# EAGLE library part ATXMEGA_A3U (library 000_CustomPartsMaster)
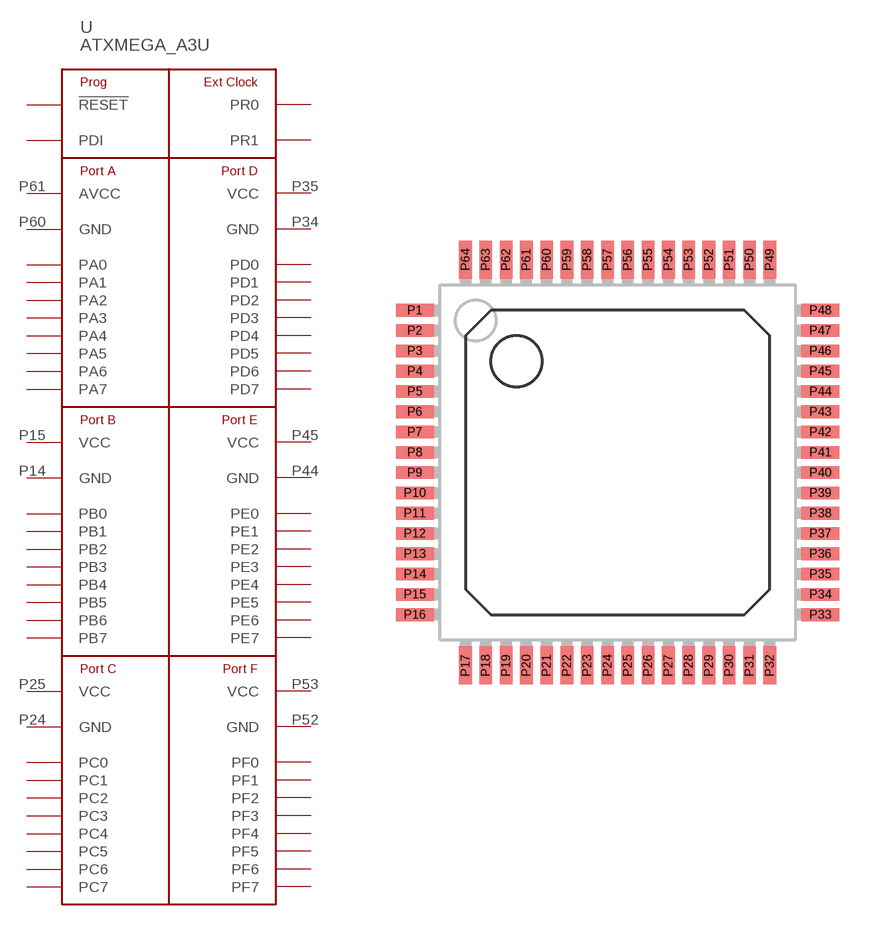
[diagram p27: symbol with the pads of 64-TQFP-0.8GRID; footprint 64-TQFP-0.8GRID]

Designator prefix -

## ATXMEGA_A3U  [64-TQFP-0.8GRID]
P1  PA3
P2  PA4
P3  PA5
P4  PA6
P5  PA7
P6  PB0
P7  PB1
P8  PB2
P9  PB3
P10  PB4
P11  PB5
P12  PB6
P13  PB7
P14  GND
P15  VCC
P16  PC0
P17  PC1
P18  PC2
P19  PC3
P20  PC4
P21  PC5
P22  PC6
P23  PC7
P24  GND
P25  VCC
P26  PD0
P27  PD1
P28  PD2
P29  PD3
P30  PD4
P31  PD5
P32  PD6
P33  PD7
P34  GND
P35  VCC
P36  PE0
P37  PE1
P38  PE2
P39  PE3
P40  PE4
P41  PE5
P42  PE6
P43  PE7
P44  GND
P45  VCC
P46  PF0
P47  PF1
P48  PF2
P49  PF3
P50  PF4
P51  PF5
P52  GND
P53  VCC
P54  PF6
P55  PF7
P56  PDI
P57  !RESET!
P58  PR0
P59  PR1
P60  GND
P61  AVCC
P62  PA0
P63  PA1
P64  PA2

## Footprint 64-TQFP-0.8GRID (pad centres in mm)
smd 1.5 x 0.5: P1 -8,6; P2 -8,5.2; P3 -8,4.4; P4 -8,3.6; P5 -8,2.8; P6 -8,2; P7 -8,1.2; P8 -8,0.4; P9 -8,-0.4; P10 -8,-1.2; P11 -8,-2; P12 -8,-2.8; P13 -8,-3.6; P14 -8,-4.4; P15 -8,-5.2; P16 -8,-6; P33 8,-6; P34 8,-5.2; P35 8,-4.4; P36 8,-3.6; P37 8,-2.8; P38 8,-2; P39 8,-1.2; P40 8,-0.4; P41 8,0.4; P42 8,1.2; P43 8,2; P44 8,2.8; P45 8,3.6; P46 8,4.4; P47 8,5.2; P48 8,6
smd 0.5 x 1.5: P17 -6,-8; P18 -5.2,-8; P19 -4.4,-8; P20 -3.6,-8; P21 -2.8,-8; P22 -2,-8; P23 -1.2,-8; P24 -0.4,-8; P25 0.4,-8; P26 1.2,-8; P27 2,-8; P28 2.8,-8; P29 3.6,-8; P30 4.4,-8; P31 5.2,-8; P32 6,-8; P49 6,8; P50 5.2,8; P51 4.4,8; P52 3.6,8; P53 2.8,8; P54 2,8; P55 1.2,8; P56 0.4,8; P57 -0.4,8; P58 -1.2,8; P59 -2,8; P60 -2.8,8; P61 -3.6,8; P62 -4.4,8; P63 -5.2,8; P64 -6,8